# Altium footprint library 78L.PcbLib: 1 footprints
Each footprint in its own frame and in the unit in brackets; x right, y up, seen from the top. Pads: shape width x height; smd on the part's side, far side on the other; paste and mask are expansions set on the pad; w line width, h text height; cw(c..) or ccw(c..) is an arc to the next point about the centre after c.
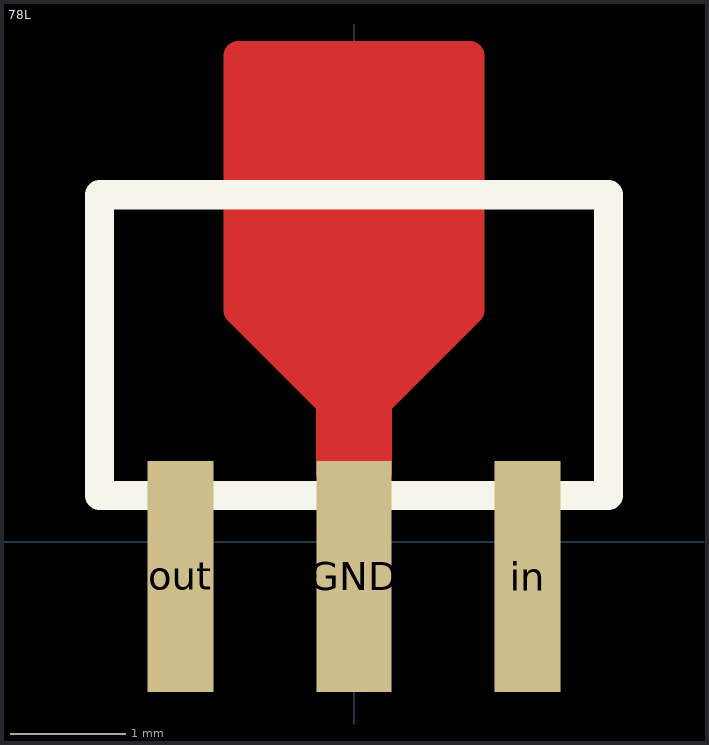
[diagram p0: the footprint, top view; thin cyan lines are the x and y axes]

## 78L [mm]
pads (3):
  rect 0.65x2 smd: GND(0,-0.3)
  rect 0.57x2 smd: in(1.5,-0.3) out(-1.5,-0.3)
Top Layer:
  lines w0.254: -0.85,3.45 -0.6,3.45 -0.15,3.45 -0.15,3.2 ; 0,0 0,3.65 ; 0,1.2 0.2,1.2 ; -1,3 -1,2 -0.2,1.2 ; -1,3 1,3 ; -1,3 -1,3.65 ; -1,3 1,3 ; -1,3.65 1,3.65 ; -1,3.65 -1,4.2 1,4.2 ; -0.2,1.2 -0.2,2.8 -1,2.8 -0.8,2.8 -0.8,2 -0.2,1.4 0,1.4 0.2,1.4 0.8,2 0.8,2.8 0.2,2.8 -0.6,2.8 -0.6,2.2 -0.6,2 -0.2,1.6 0,1.6 0.2,1.6 ; -0.2,1.2 -0.2,0.6 0.2,0.6 0.2,1.6 ; -0.2,1.2 0.4,1.8 ; -0.2,1.2 0.2,1.2 ; -0.15,3.2 -0.15,3.2 ; -0.15,3.2 -0.85,3.2 -0.75,3.3 0.6,3.3 0.65,3.35 0.65,3.2 0.6,3.15 0.2,3.15 0.15,3.2 0.15,3.4 0.25,3.5 0.85,3.5 0.85,3.15 1,3 ; 0.2,1.2 1,2 1,3 ; 0.2,1.6 0.2,1.6 ; 0.2,1.6 0.6,2 ; 0.2,2.4 0.4,2.6 0.2,2.4 ; 0.2,2.4 0.6,2.4 0.6,2 ; 0.2,2.4 0.2,1.8 -0.2,1.8 -0.4,2 -0.4,2.6 0.6,2.6 0.6,2 ; 0.2,2.4 0.6,2 ; 0.2,2.4 0,2.2 0.4,2.2 0.4,1.8 ; 0.4,1.8 0.4,1.8 ; 1,3 1,3.65 ; 1,3.65 1,4.2 ; 1,3.65 0.8,3.85 0.65,4 -1,4 -0.85,3.85 0.65,3.85 1,4.2
Top Overlay:
  lines w0.254: 2,0.4 -2,0.4 -2.2,0.4 ; -2.2,0.4 -2.2,3 2.2,3 2.2,0.4 -2.2,0.4
Top Solder:
  lines w0.254: -0.2,0.8 -0.2,1.4 ; -0.2,1.1 -0.2,1.2 -1,2 ; 0,3.4 0,2 -0.2,1.8 ; -1,2 -1,4.2 1,4.2 1,2 0.2,1.2 0.2,0.8 0,0.8 0,1.2 0.8,2 0.8,4 -0.8,4 -0.8,2 -0.2,1.4 ; -1,2 -0.4,1.4 -0.2,1.4 ; -0.2,1.4 0,1.4 0.6,2 0.6,3.8 -0.6,3.8 -0.6,2 -0.2,1.6 0,1.6 0.4,2 0.4,3.6 -0.4,3.6 -0.4,2 -0.2,1.8 ; -0.2,1.8 -0.2,2.2 -0.2,3.4 0.2,3.4 0.2,2 0,1.8 -0.2,1.8